# Altium footprint library PCB Components.PcbLib: 18 footprints (part 2 of 2)
Each footprint in its own frame and in the unit in brackets; x right, y up, seen from the top. Pads: shape width x height; smd on the part's side, far side on the other; paste and mask are expansions set on the pad; w line width, h text height; cw(c..) or ccw(c..) is an arc to the next point about the centre after c.
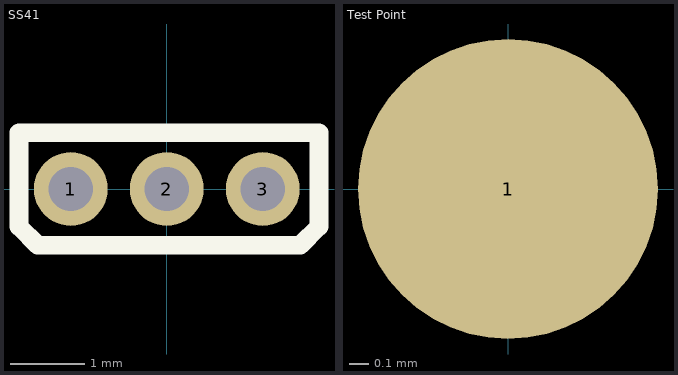
[diagram p1: the footprints below, top view; thin cyan lines are the x and y axes]

## SS41 [mm]
pads (3):
  round 1 hole 0.6 paste+0 mask+0.051: 1(-1.3,0) 2(0,0) 3(1.3,0)
Top Overlay:
  lines w0.254: -2.002,-0.508 -1.748,-0.762 1.808,-0.762 2.062,-0.508 2.062,0 2.062,0.762 -2.002,0.762 -2.002,-0.508
Mechanical 15:
  lines w0.003: 1.427,0.104 1.427,0.104

## Test Point [mil]
pads (1):
  round 60 smd: 1(0,0)